# Altium schematic symbol library BuckReg_TPS62A01DRLR.SchLib: 1 symbol
Pins are listed as number, name and electrical type; pins without a type are passive.

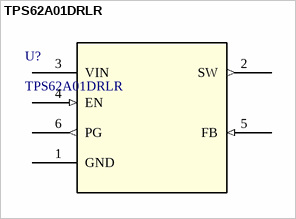
[diagram p0: symbol TPS62A01DRLR]

## TPS62A01DRLR
designator U?
2.5V-to-5.5V input, 1A output high-efficiency step-down converter 6-SOT-5X3 -40 to 125; Manufacturer_Name: Texas Instruments; Copyright: Copyright (C) 2025 Ultra Librarian. All rights reserved.; Manufacturer_Part_Number: TPS62A01DRLR; RefDes: RefDes; Type: Type
footprint SOT6_DRL_TEX
pins: 1 GND (power), 2 SW (out), 3 VIN (power), 4 EN (in), 5 FB (in), 6 PG (out)